# EAGLE library part DG06S (library RS-parts)
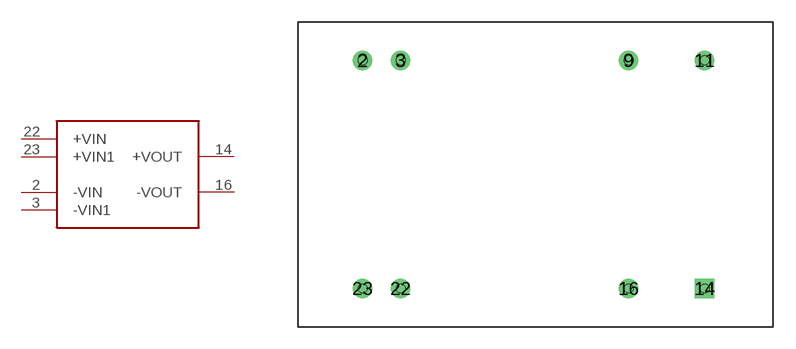
[diagram p5: symbol with the pads of DG06S; footprint DG06S]

Designator prefix -

## DG06S  [DG06S]
2  -VIN
3  -VIN1
14  +VOUT
16  -VOUT
22  +VIN
23  +VIN1

## Footprint DG06S (pad centres in mm)
drill 0.8: 2 4.318,17.78; 3 6.858,17.78; 9 22.098,17.78; 11 27.178,17.78; 16 22.098,2.54; 22 6.858,2.54; 23 4.318,2.54
drill 0.8 square: 14 27.178,2.54
hole 0.6 at 4.318,17.78
hole 0.6 at 6.858,17.78
hole 0.6 at 22.098,17.78
hole 0.6 at 27.178,17.78
hole 0.6 at 27.178,2.54
hole 0.6 at 22.098,2.54
hole 0.6 at 6.858,2.54
hole 0.6 at 4.318,2.54